# Altium schematic symbol library Trans_Vishay_IRF9540PBF_eec.SchLib: 1 symbol
Pins are listed as number, name and electrical type; pins without a type are passive.

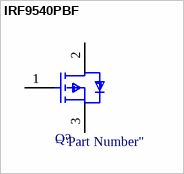
[diagram p0: symbol IRF9540PBF]

## IRF9540PBF
designator Q?  (value not drawn)
pins: 1 G, 2 D, 3 S